# EAGLE library part MCP1640-DFN-8 (library SamacSys_Parts)
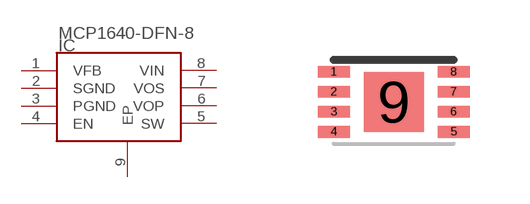
[diagram p29: symbol with the pads of DFN-8-2X3; footprint DFN-8-2X3]

Designator prefix IC

## MCP1640-DFN-8  [DFN-8-2X3]
1  VFB
2  SGND  pwr
3  PGND  pwr
4  EN
5  SW  pwr
6  VOP  pwr
7  VOS  pwr
8  VIN  pwr
9  EP  pwr

## Footprint DFN-8-2X3 (pad centres in mm)
smd 0.8 x 0.3: 1 -1.5,0.75; 2 -1.5,0.25; 3 -1.5,-0.25; 4 -1.5,-0.75; 5 1.5,-0.75; 6 1.5,-0.25; 7 1.5,0.25; 8 1.5,0.75
smd 1.5 x 1.5: 9 0,0